# EAGLE library part STM32F40XRXT6 (library stm32)
STM32F40X LQFP64
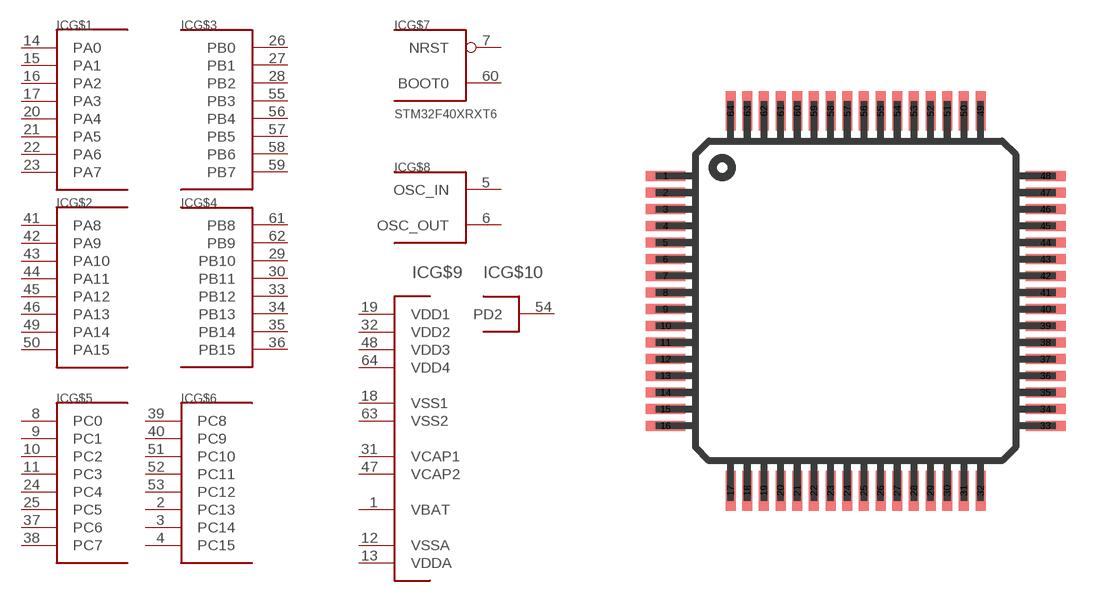
[diagram p5: symbol with the pads of TQFP64; footprint TQFP64]

Designator prefix IC; gates G$1=PORT_A_L G$2=PORT_A_H G$3=PORT_B_L G$4=PORT_B_H G$5=PORT_C_L G$6=PORT_C_H G$7=BOOT_RST G$8=OSC G$9=VCC_VDD_F405M G$10=PORT_D2_SINGLE

## STM32F40XRXT6  [TQFP64]
1  G$9:VBAT
2  G$6:PC13
3  G$6:PC14
4  G$6:PC15
5  G$8:OSC_IN  in
6  G$8:OSC_OUT  out
7  G$7:NRST  in
8  G$5:PC0
9  G$5:PC1
10  G$5:PC2
11  G$5:PC3
12  G$9:VSSA
13  G$9:VDDA
14  G$1:PA0
15  G$1:PA1
16  G$1:PA2
17  G$1:PA3
18  G$9:VSS1
19  G$9:VDD1
20  G$1:PA4
21  G$1:PA5
22  G$1:PA6
23  G$1:PA7
24  G$5:PC4
25  G$5:PC5
26  G$3:PB0
27  G$3:PB1
28  G$3:PB2
29  G$4:PB10
30  G$4:PB11
31  G$9:VCAP1
32  G$9:VDD2
33  G$4:PB12
34  G$4:PB13
35  G$4:PB14
36  G$4:PB15
37  G$5:PC6
38  G$5:PC7
39  G$6:PC8
40  G$6:PC9
41  G$2:PA8
42  G$2:PA9
43  G$2:PA10
44  G$2:PA11
45  G$2:PA12
46  G$2:PA13
47  G$9:VCAP2
48  G$9:VDD3
49  G$2:PA14
50  G$2:PA15
51  G$6:PC10
52  G$6:PC11
53  G$6:PC12
54  G$10:PD2
55  G$3:PB3
56  G$3:PB4
57  G$3:PB5
58  G$3:PB6
59  G$3:PB7
60  G$7:BOOT0  in
61  G$4:PB8
62  G$4:PB9
63  G$9:VSS2
64  G$9:VDD4

## Footprint TQFP64 (pad centres in mm)
smd 1.2 x 0.3: 1 -5.7,3.75; 2 -5.7,3.25; 3 -5.7,2.75; 4 -5.7,2.25; 5 -5.7,1.75; 6 -5.7,1.25; 7 -5.7,0.75; 8 -5.7,0.25; 9 -5.7,-0.25; 10 -5.7,-0.75; 11 -5.7,-1.25; 12 -5.7,-1.75; 13 -5.7,-2.25; 14 -5.7,-2.75; 15 -5.7,-3.25; 16 -5.7,-3.75; 33 5.7,-3.75; 34 5.7,-3.25; 35 5.7,-2.75; 36 5.7,-2.25; 37 5.7,-1.75; 38 5.7,-1.25; 39 5.7,-0.75; 40 5.7,-0.25; 41 5.7,0.25; 42 5.7,0.75; 43 5.7,1.25; 44 5.7,1.75; 45 5.7,2.25; 46 5.7,2.75; 47 5.7,3.25; 48 5.7,3.75
smd 0.3 x 1.2: 17 -3.75,-5.7; 18 -3.25,-5.7; 19 -2.75,-5.7; 20 -2.25,-5.7; 21 -1.75,-5.7; 22 -1.25,-5.7; 23 -0.75,-5.7; 24 -0.25,-5.7; 25 0.25,-5.7; 26 0.75,-5.7; 27 1.25,-5.7; 28 1.75,-5.7; 29 2.25,-5.7; 30 2.75,-5.7; 31 3.25,-5.7; 32 3.75,-5.7; 49 3.75,5.7; 50 3.25,5.7; 51 2.75,5.7; 52 2.25,5.7; 53 1.75,5.7; 54 1.25,5.7; 55 0.75,5.7; 56 0.25,5.7; 57 -0.25,5.7; 58 -0.75,5.7; 59 -1.25,5.7; 60 -1.75,5.7; 61 -2.25,5.7; 62 -2.75,5.7; 63 -3.25,5.7; 64 -3.75,5.7